# EAGLE library part 520425-3 (library con-amp)
AMP connector
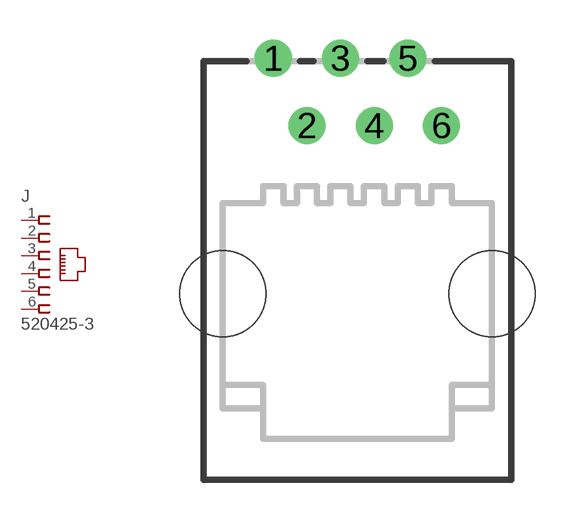
[diagram p41: symbol with the pads of 520425-3; footprint 520425-3]

Designator prefix J

## 520425-3  [520425-3]
1  1  pas
2  2  pas
3  3  pas
4  4  pas
5  5  pas
6  6  pas

## Footprint 520425-3 (pad centres in mm)
Modular Jack without Panel Stops
drill 0.889: 1 -3.175,8.001; 2 -1.905,5.461; 3 -0.635,8.001; 4 0.635,5.461; 5 1.905,8.001; 6 3.175,5.461
hole 3.251 at -5.08,-0.889
hole 3.251 at 5.08,-0.889